# Altium schematic symbol library Murata Pulse Transformer.Schlib: 1 symbol
Pins are listed as number, name and electrical type; pins without a type are passive.

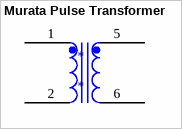
[diagram p0: symbol Murata Pulse Transformer]

## Murata Pulse Transformer
designator *
pins: 1, 2, 5, 6